# Altium footprint library CONECTOR.PcbLib: 1 footprints
Each footprint in its own frame and in the unit in brackets; x right, y up, seen from the top. Pads: shape width x height; smd on the part's side, far side on the other; paste and mask are expansions set on the pad; w line width, h text height; cw(c..) or ccw(c..) is an arc to the next point about the centre after c.
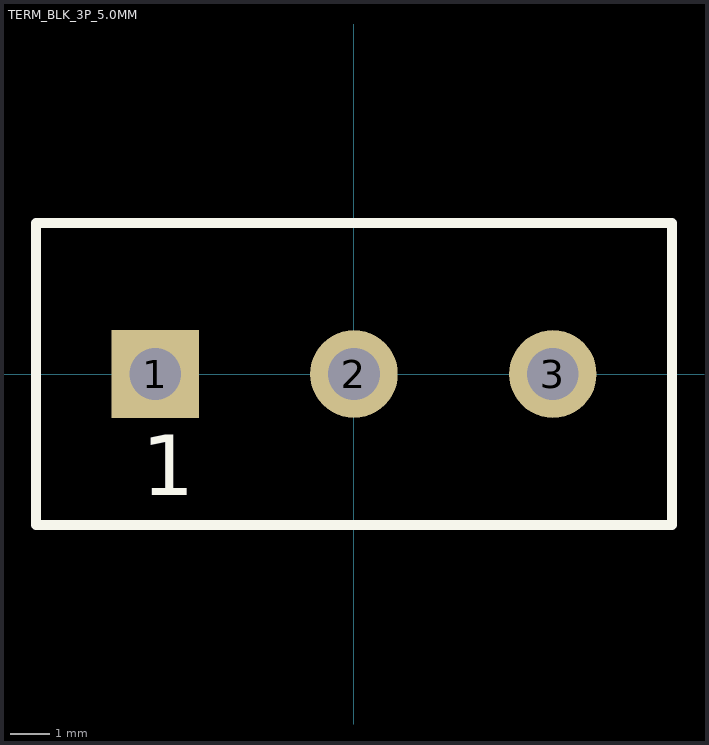
[diagram p0: the footprint, top view; thin cyan lines are the x and y axes]

## TERM_BLK_3P_5.0MM [mm] "Screw Terminal Block, 3 Pin, 5.0mm Pitch"
height 1
pads (3):
  rect 2.2x2.2 hole 1.3: 1(-5,0)
  round 2.2 hole 1.3: 2(0,0) 3(5,0)
Top Overlay:
  lines w0.254: -8,-3.8 8,-3.8 8,3.8 -8,3.8 -8,-3.8
  text "1" at -5.334,-3.048 h1.52
3D body: height 0.25, standoff 0, extent -8.001,-3.81 8.001,3.81